# Altium integrated library Resistors.IntLib: 5 symbols
Pins are listed as number, name and electrical type; pins without a type are passive.

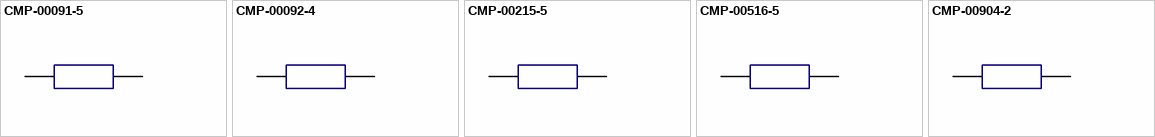
[diagram p0: symbols CMP-00091-5 to CMP-00904-2]

## CMP-00091-5
designator R?, comment PAD
Component Name: PAD; Marking: PAD; Package: 0603; Value: PAD
pins: 1, 2

## CMP-00092-4
designator R?, comment PAD
Marking: PAD; Package: 0805; Component Name: PAD; Value: PAD
footprint R0805
pins: 1, 2

## CMP-00215-5
designator R?, comment PAD
Marking: PAD; Component Name: PAD; Package: 0402; Value: PAD
footprint R0402
pins: 1, 2

## CMP-00516-5
designator R?, comment PAD
Value: PAD; Component Name: PAD; Marking: PAD; Package: 1206
footprint Resistor 1206
pins: 1, 2

## CMP-00904-2
designator R?, comment 9m0
Component Name: Fixed resistor, SMD, 2512, 9m0 5%; Value: 9m0; Marking: 9m0; Package: 2512
footprint R2512
pins: 1, 2